# EAGLE library part CD4028B (library HyTechDevices)
Texas Instruments CD4028B Decoder Decoder/Demultiplexer Single 4-to-10
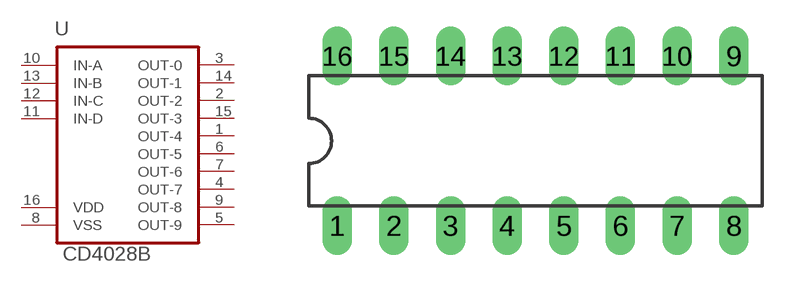
[diagram p43: symbol with the pads of DIL16; footprint DIL16]

Designator prefix -

## CD4028B  [DIL16]
1  OUT-4  out
2  OUT-2  out
3  OUT-0  out
4  OUT-7  out
5  OUT-9  out
6  OUT-5  out
7  OUT-6  out
8  VSS  out
9  OUT-8  out
10  IN-A  in
11  IN-D  in
12  IN-C  in
13  IN-B  in
14  OUT-1  out
15  OUT-3  out
16  VDD  in

## Footprint DIL16 (pad centres in mm)
Dual In Line Package
drill 0.813 long: 1 -8.89,-3.81; 2 -6.35,-3.81; 3 -3.81,-3.81; 4 -1.27,-3.81; 5 1.27,-3.81; 6 3.81,-3.81; 7 6.35,-3.81; 8 8.89,-3.81; 9 8.89,3.81; 10 6.35,3.81; 11 3.81,3.81; 12 1.27,3.81; 13 -1.27,3.81; 14 -3.81,3.81; 15 -6.35,3.81; 16 -8.89,3.81